# Altium schematic symbol library Discrete.SchLib: 108 symbols
Pins are listed as number, name and electrical type; pins without a type are passive.

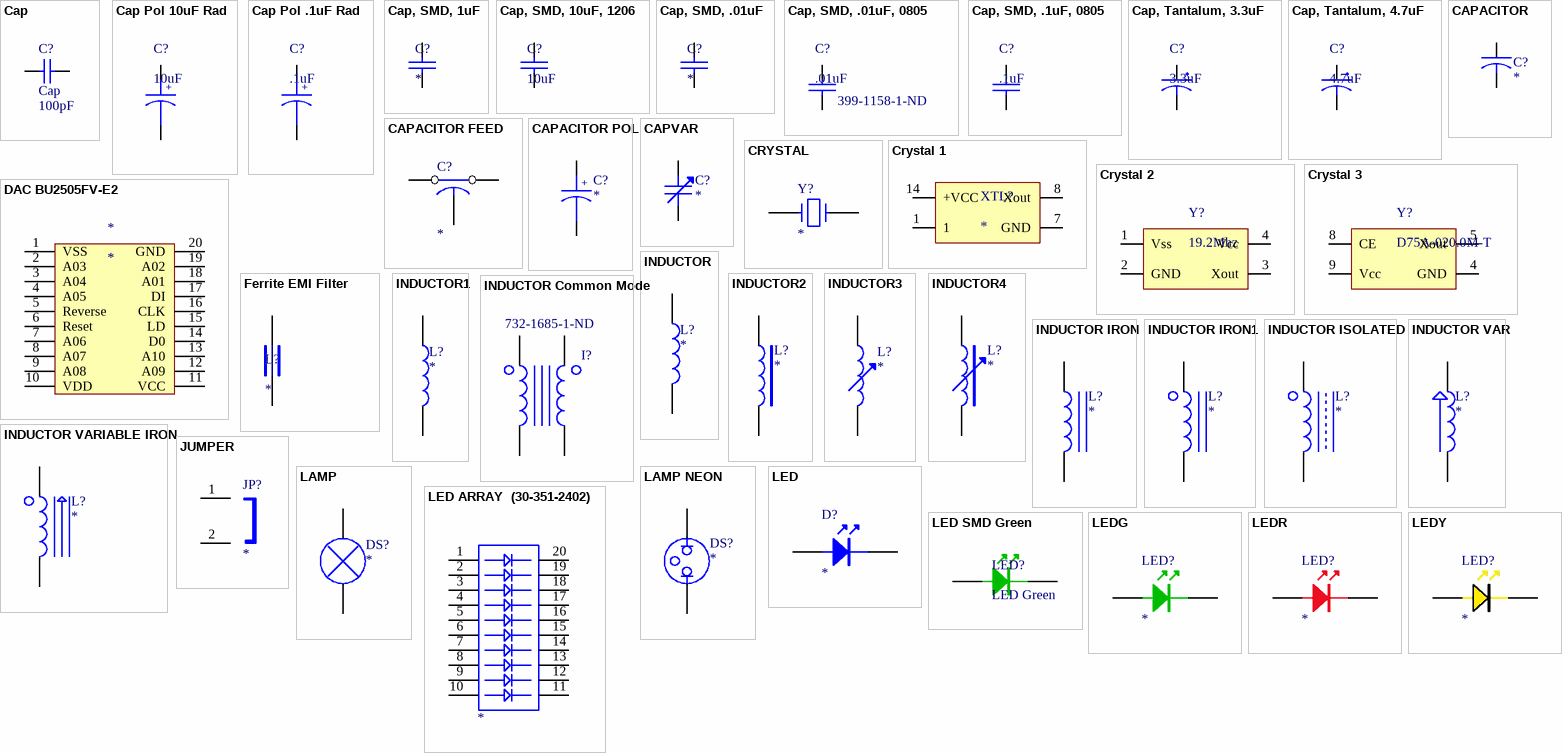
[diagram p0: symbols Cap to LEDY]

## Cap
designator C?  value 100pF
Capacitor; Supplier 1: *; Supplier Part Number 1: *
footprint RAD-0.3 (Capacitor; 2 Leads)
footprint VP32-3.2 (Capacitor, Ceramic, Thru-Hole, Dipped Radial; Body 5.1 x 3.2 mm (WxT) Pin Spacing 2.54 mm (typ))
footprint VP45-3.2 (Capacitor, Ceramic, Thru-Hole, Dipped Radial; Body 7.8 x 3.2 mm (WxT) Pin Spacing 5.08 mm (typ))
simulation model CAP (Capacitor)
signal-integrity model Cap
footprint 1206
footprint 1210
footprint 2416 (2416 SMD)
footprint 1913. (Footprint not found)
footprint 2820 (2820 SMD)
footprint Rad .6 (Radial)
footprint Rad .7 (Radial Cap)
footprint 0402
footprint 0805
footprint 0603
footprint 2312
pins: 1, 2

## Cap Pol 10uF Rad
designator C?, comment 10uF
Electrolytic 25V; Supplier 1: Digi-Key; Supplier Part Number 1: P11212-ND
footprint RAD .05
pins: 1, 2
text: +

## Cap Pol .1uF Rad
designator C?, comment .1uF
Electrolytic 50V; Supplier 1: Digi-Key; Supplier Part Number 1: P5559-ND
footprint RAD .075
pins: 1, 2
text: +

## Cap, SMD, 1uF
designator C?
Ceramic SMD Cap
footprint 1206
pins: 1, 2

## Cap, SMD, 10uF, 1206
designator C?, comment 10uF
Ceramic SMD Cap
footprint 1206
pins: 1, 2

## Cap, SMD, .01uF
designator C?
Ceramic SMD Cap
footprint 0805
pins: 1, 2

## Cap, SMD, .01uF, 0805
designator C?, comment .01uF  Supplier Part Number 1: 399-1158-1-ND
Ceramic SMD Cap; Supplier 1: Digi-Key
footprint 0805
pins: 1, 2

## Cap, SMD, .1uF, 0805
designator C?, comment .1uF
Ceramic SMD Cap; Supplier 1: Digi-Key; Supplier Part Number 1: 478-3553-1-ND
footprint 0805
pins: 1, 2

## Cap, Tantalum, 3.3uF
designator C?, comment 3.3uF
Tantalum, 3.3uF, 35V; Manufacturer: Kemet; ManufacturerPN: T491B335M035AT; Help: http://www.kemet.com/datasheets&T491B335M035AT; Supplier 1: Digikey; Supplier Part Number 1: 399-3720-1-ND
footprint 1411
pins: 1, 2

## Cap, Tantalum, 4.7uF
designator C?, comment 4.7uF
4.7uF, 50V; Manufacturer: Kemet; ManufacturerPN: T491D475K050AT; Help: http://www.kemet.com/datasheets&T491D475K050AT; Supplier 1: Digikey; Supplier Part Number 1: 399-3792-1-ND
footprint CAPSize_D
pins: 1, 2

## CAPACITOR
designator C?
Capacitor
pins: 1, 2

## CAPACITOR FEED
designator C?
Feed-Through Capacitor
pins: 1, 2, 3

## CAPACITOR POL
designator C?
Capacitor
footprint Rad Cap CE TUP (Power Cap ECE-T1JP223FA)
footprint RAD CAP .4 (Capacitor)
footprint Rad Cap .160 (Radial Cap .160 x .450)
footprint RAD .075
footprint RAD .05
footprint 1206
footprint 0805
footprint CAPSMD1 (Cap SMD General Footprint)
footprint CAPSMD2 (Cap SMD General)
footprint CAPSMD3 (Cap SMD General 3)
footprint CAPSIZE_c
footprint CAPSIZE_d
footprint 2312
pins: 1, 2
text: +

## CAPVAR
designator C?
Variable Capacitor
pins: 1, 2

## CRYSTAL
designator Y?
Crystal
footprint ABLS2
footprint HC49/US (Specialized for HC-49S Crystal)
footprint ECS-.327-6-13 (Footprint not found)
pins: 1, 2

## Crystal 1
designator XTL?
5V, DIP STRATUM 3 HCMOS OCXO
pins: 1, 7 GND, 8 Xout, 14 +VCC

## Crystal 2
designator Y?, comment 19.2Mhz
OSC TCXO 19.2000 MHZ 3.3V SMD
footprint CTX808
pins: 1 Vss, 2 GND, 3 Xout, 4 Vcc

## Crystal 3
designator Y?, comment D75A-020.0M-T
OSC TCXO 20.000 MHZ 3.3V SMT; Help: *
footprint D75A-020.0M-T
pins: 4 GND, 5 Xout, 8 CE, 9 Vcc

## DAC BU2505FV-E2
designator *
pins: 1 VSS, 2 A03, 3 A04, 4 A05, 5 Reverse, 6 Reset, 7 A06, 8 A07, 9 A08, 10 VDD, 11 VCC, 12 A09, 13 A10, 14 D0, 15 LD, 16 CLK, 17 DI, 18 A01, 19 A02, 20 GND
1 alternate drawing of the same symbol

## Ferrite EMI Filter
designator L?
EMI Ferrite chip Filter; Supplier 1: Digikey; Supplier Part Number 1: 490-1014-1-ND
footprint 0603
pins: 1, 2

## INDUCTOR
designator L?
footprint 0402
footprint 0603
footprint 1206
pins: 1, 2

## INDUCTOR1
designator L?
footprint SLF6028
pins: 1, 2

## INDUCTOR2
designator L?
pins: 1, 2

## INDUCTOR3
designator L?
pins: 1, 2

## INDUCTOR4
designator L?
pins: 1, 2

## INDUCTOR Common Mode
designator I?  Supplier Part Number 1: 732-1685-1-ND  (hidden comment: *)
Supplier 1: Digi-Key
footprint 744242101 (Common Mode Choke)
pins: 1, 2, 3, 4

## INDUCTOR IRON
designator L?
pins: 1, 2

## INDUCTOR IRON1
designator L?
pins: 1, 2

## INDUCTOR ISOLATED
designator L?
pins: 1, 2

## INDUCTOR VAR
designator L?
pins: 1, 2

## INDUCTOR VARIABLE IRON
designator L?
pins: 1, 2

## JUMPER
designator JP?
Jumper
footprint RAD0.2
pins: 1, 2

## LAMP
designator DS?
pins: 1, 2

## LAMP NEON
designator DS?
pins: 1, 2

## LED
designator D?
pins: A 1, K 2

## LED ARRAY  (30-351-2402)
designator ?
pins: 1 A1, 2 A2, 3 A3, 4 A4, 5 A5, 6 A6, 7 A7, 8 A8, 9 A9, 10 A10, 11 K10, 12 K9, 13 K8, 14 K7, 15 K6, 16 K5, 17 K4, 18 K3, 19 K2, 20 K1

## LED SMD Green
designator LED?, comment LED Green
LED
footprint 1206 Diode (Diode)
pins: A 1, K 2

## LEDG
designator LED?
Green LED
footprint T1
footprint T1 3/4
footprint LED 1206 (LED 1206 footprint only)
pins: 1, 2

## LEDR
designator LED?
Red LED
footprint T1
footprint T1 3/4
footprint LED 1206 (LED 1206 footprint only)
footprint Gullwing
pins: 1, 2

## LEDY
designator LED?
Yellow LED
footprint T1
footprint T1 3/4
footprint LED 1206 (LED 1206 footprint only)
pins: 1, 2

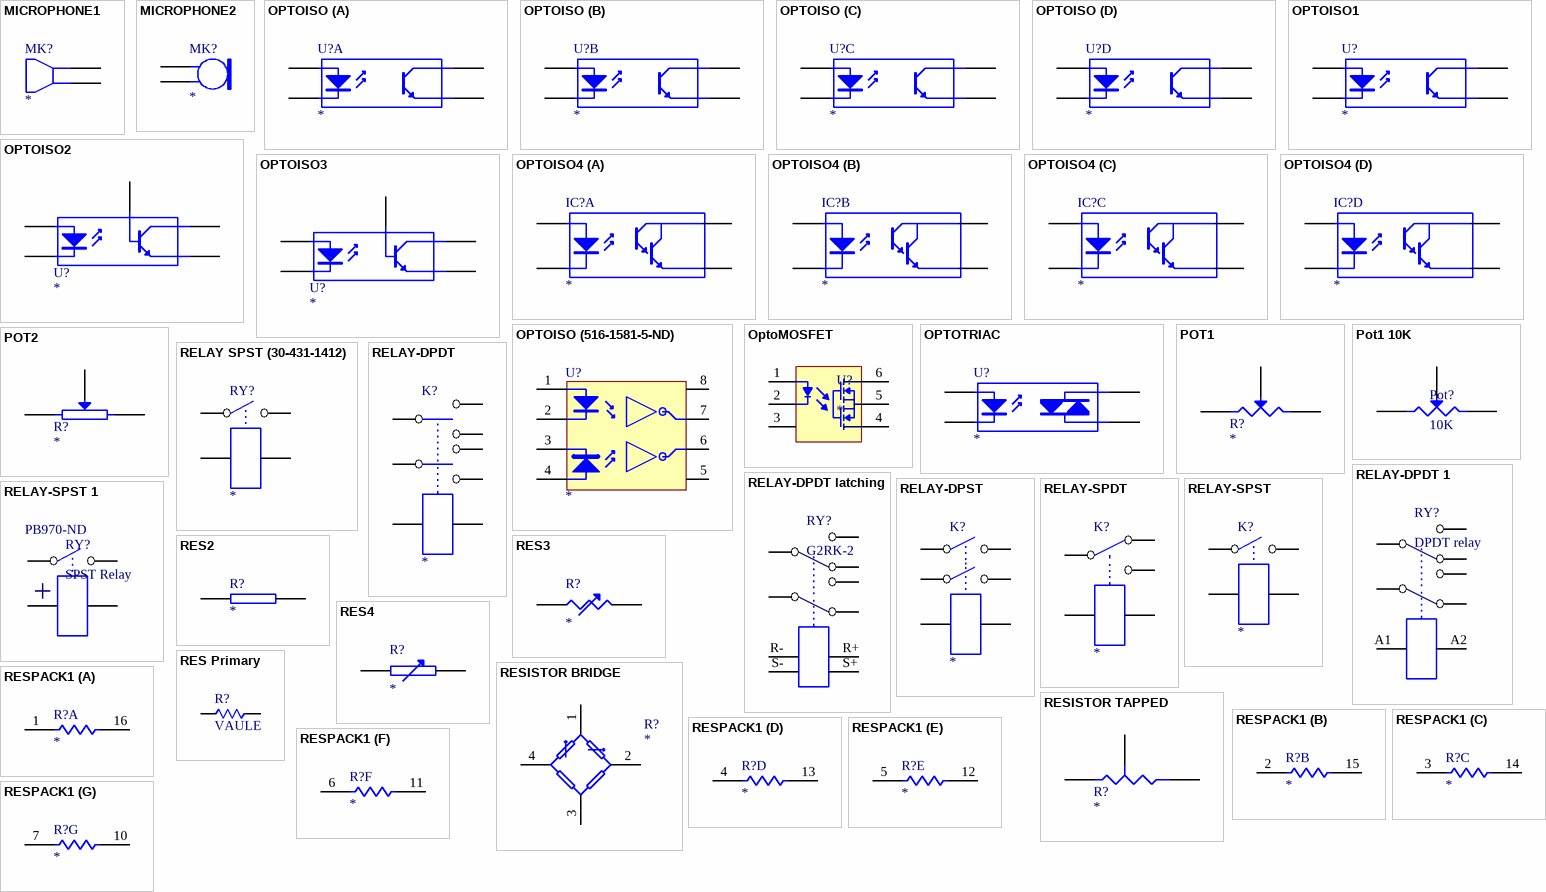
[diagram p1: symbols MICROPHONE1 to RESPACK1]

## MICROPHONE1
designator MK?
Microphone
pins: 1, 2

## MICROPHONE2
designator MK?
Microphone
pins: 1, 2

## OPTOISO
designator U?
Quad Opto isolator
footprint SO-16
part A pins: 1 A, 2 K, 3 C, 4 E
part B pins: 3 A, 4 K, 13 E, 14 C
part C pins: 5 A, 6 K, 11 E, 12 C
part D pins: 7 A, 8 K, 9 E, 10 C

## OPTOISO1
designator U?
Optoisolator
footprint SO-8
pins: 1 A, 2 K, 3 C, 4 E

## OPTOISO2
designator U?
Optoisolator
pins: 1 A, 2 K, 3 B, 4 C, 5 E

## OPTOISO3
designator U?
H11A1 Opto Isolator
footprint DIP6
pins: 1 A, 2 K, 4 E, 5 C, 6 B

## OPTOISO4
designator IC?
OPTOCOUPLER 2CHAN HS LOGIC 8-SMD
footprint SOJ-16
part A pins: 1 A, 2 K, 15 E, 16 C
part B pins: 3 A, 4 K, 13 E, 14 C
part C pins: 5 A, 6 K, 11 E, 12 C
part D pins: 7 A, 8 K, 9 E, 10 C

## OPTOISO (516-1581-5-ND)
designator U?
Optoiso (516-1581-5-ND)
footprint SO-8
pins: 1 A, 2 K, 3 K, 4 A, 5 GND, 6 VO2, 7 VO1, 8 VCC

## OptoMOSFET
designator U?
footprint DIP6
pins: 1, 2, 3, 4, 5, 6

## OPTOTRIAC
designator U?
pins: 1 A, 2 K, 3 A/K, 4 A/K

## POT1
designator R?
Potentiometer
pins: 1, 2, 3 W

## Pot1 10K
designator Pot?, comment 10K
10K Pot; Manufacturer: Vishay Sfernice; ManufacturerPN: T63YB103KT20; Help: http://www.vishay.com/doc?51024; Supplier 1: Digikey; Supplier Part Number 1: T63YB-10K-ND
footprint T63YB103KT20 (Footprint not found)
pins: 1, 2, 3 W

## POT2
designator R?
Potentiometer
pins: 1, 2, 3 W

## RELAY SPST (30-431-1412)
designator RY?
SPST
footprint 30-431-1412
pins: 1, 2, 3, 4

## RELAY-DPDT
designator K?
pins: 1, 2, 3, 4, 5, 6, 7, 8

## RELAY-DPDT 1
designator RY?, comment DPDT relay
Supplier 1: Digikey; Supplier Part Number 1: PB970-ND
footprint RT424524 (DPDT Standard relay)
pins: 11, 12, 14, 21, 22, 24, A1, A2

## RELAY-DPDT latching
designator RY?, comment G2RK-2
DPDT Latching relay; Supplier 1: Digikey; Supplier Part Number 1: Z2329-ND
footprint G2RK-2 (DPDT relay with latch)
pins: 3, 4, 5, 6, 7, 8, R+ 9, R- 2, S+ 10, S- 1

## RELAY-DPST
designator K?
pins: 1, 2, 3, 4, 5, 6

## RELAY-SPDT
designator K?
footprint 2911-05-301 (SPDT Reed switch)
pins: 1, 2, 3, 4, 5

## RELAY-SPST
designator K?
footprint LC241R (Crydom SSR)
pins: 1, 2, 3, 4

## RELAY-SPST 1
designator RY?, comment SPST Relay  Supplier Part Number 1: PB970-ND
Supplier 1: Digi-Key
footprint HE751A2410 (SPST relay)
pins: 2, 6, 8, 14

## RES2
designator R?
pins: 1, 2

## RES3
designator R?
pins: 1, 2

## RES4
designator R?
pins: 1, 2

## RES Primary
designator R?, comment VAULE
Resistor
footprint 0805
footprint 1206
footprint AXIAL-0.5
footprint Axiel 2 (Axiel 2")
footprint Axial .2 A (Axial Slant)
footprint 0603
footprint 0402
footprint 2010
pins: 1, 2

## RESISTOR BRIDGE
designator R?
Resistor Bridge
pins: 1, 2, 3, 4

## RESISTOR TAPPED
designator R?
pins: 1 A, 2 B, 3 TAP

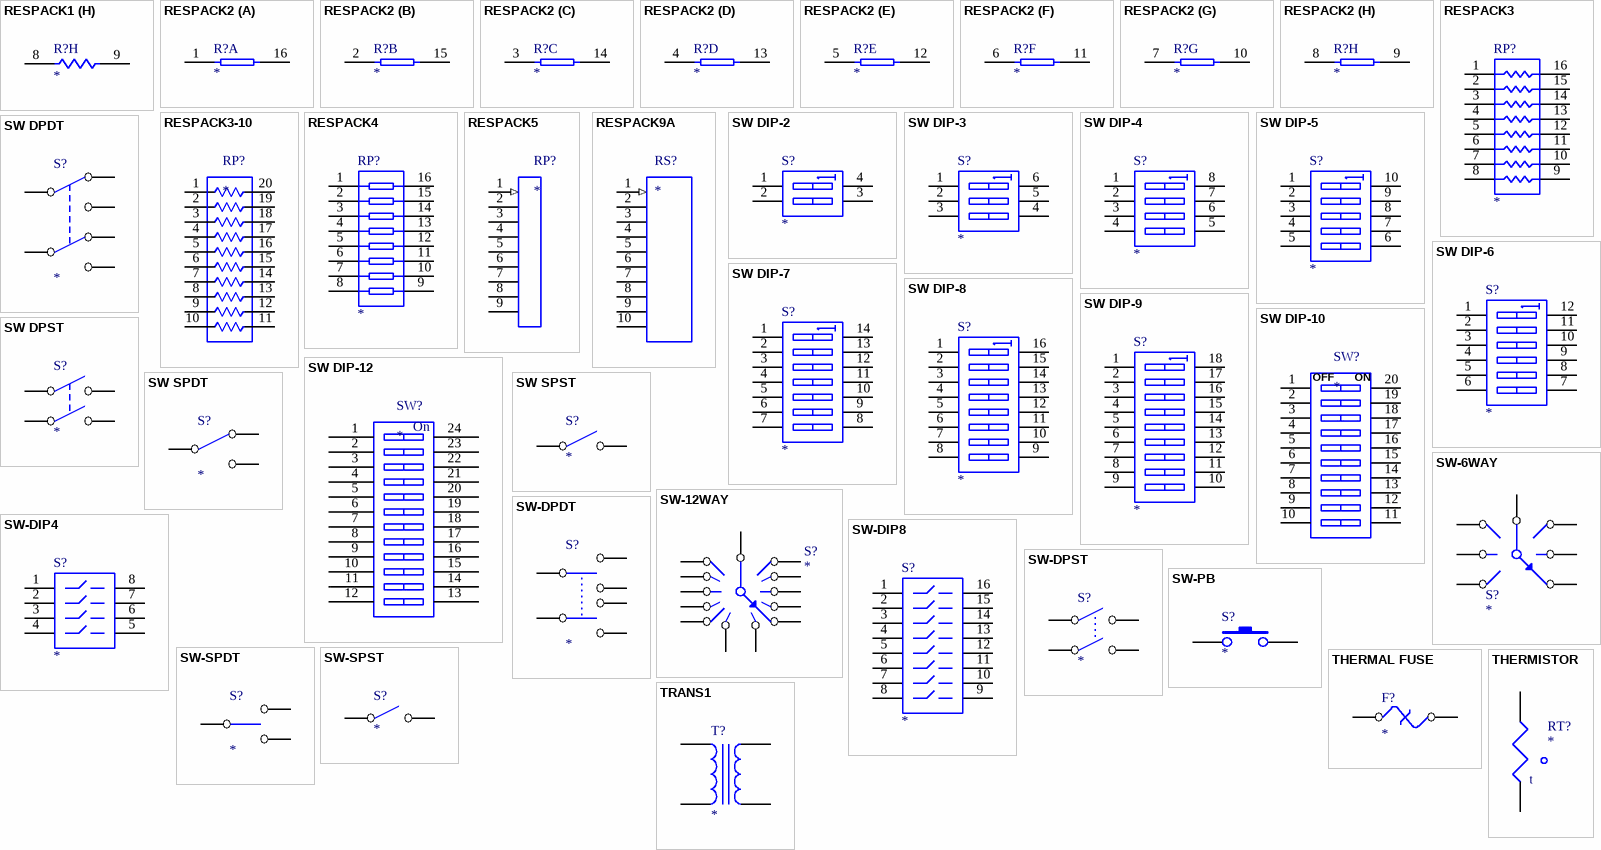
[diagram p2: symbols RESPACK1 to TRANS1]

## RESPACK1
designator R?
footprint DIP-16
footprint MNR18 (Resistor array)
part A pins: 1, 16
part B pins: 2, 15
part C pins: 3, 14
part D pins: 4, 13
part E pins: 5, 12
part F pins: 6, 11
part G pins: 7, 10
part H pins: 8, 9

## RESPACK2
designator R?
footprint DIP-16
part A pins: 1, 16
part B pins: 2, 15
part C pins: 3, 14
part D pins: 4, 13
part E pins: 5, 12
part F pins: 6, 11
part G pins: 7, 10
part H pins: 8, 9

## RESPACK3
designator RP?
footprint DIP-16
pins: 1, 2, 3, 4, 5, 6, 7, 8, 9, 10, 11, 12, 13, 14, 15, 16

## RESPACK3-10
designator RP?
footprint SOIC-20
pins: 1, 2, 3, 4, 5, 6, 7, 8, 9, 10, 11, 12, 13, 14, 15, 16, 17, 18, 19, 20

## RESPACK4
designator RP?
footprint DIP-16
pins: 1, 2, 3, 4, 5, 6, 7, 8, 9, 10, 11, 12, 13, 14, 15, 16

## RESPACK5
designator RP?
footprint SIP-9 (Footprint not found)
pins: 1 (in), 2, 3, 4, 5, 6, 7, 8, 9

## RESPACK9A
designator RS?
Supplier 1: *; Supplier Part Number 1: *
footprint 4610X-101-472LF (Resistor Pack)
pins: 1 (in), 2, 3, 4, 5, 6, 7, 8, 9, 10

## SW DIP-2
designator S?
DIP Switch
footprint 219-2LPST (Footprint not found)
pins: 1 A1, 2 A2, 3 B2, 4 B1

## SW DIP-3
designator S?
DIP Switch
pins: 1 A1, 2 A2, 3 A3, 4 B3, 5 B2, 6 B1

## SW DIP-4
designator S?
DIP Switch
pins: 1 A1, 2 A2, 3 A3, 4 A4, 5 B4, 6 B3, 7 B2, 8 B1

## SW DIP-5
designator S?
DIP Switch
pins: 1 A1, 2 A2, 3 A3, 4 A4, 5 A5, 6 B5, 7 B4, 8 B3, 9 B2, 10 B1

## SW DIP-6
designator S?
DIP Switch
pins: 1 A1, 2 A2, 3 A3, 4 A4, 5 A5, 6 A6, 7 B6, 8 B5, 9 B4, 10 B3, 11 B2, 12 B1

## SW DIP-7
designator S?
DIP Switch
pins: 1 A1, 2 A2, 3 A3, 4 A4, 5 A5, 6 A6, 7 A7, 8 B7, 9 B6, 10 B5, 11 B4, 12 B3, 13 B2, 14 B1

## SW DIP-8
designator S?
DIP Switch
footprint 219-8MST (8 position switch)
pins: 1 A1, 2 A2, 3 A3, 4 A4, 5 A5, 6 A6, 7 A7, 8 A8, 9 B8, 10 B7, 11 B6, 12 B5, 13 B4, 14 B3, 15 B2, 16 B1

## SW DIP-9
designator S?
DIP Switch
pins: 1 A1, 2 A2, 3 A3, 4 A4, 5 A5, 6 A6, 7 A7, 8 A8, 9 A9, 10 B9, 11 B8, 12 B7, 13 B6, 14 B5, 15 B4, 16 B3, 17 B2, 18 B1

## SW DIP-10
designator SW?
footprint 219-10MST
pins: 1 A1, 2 A2, 3 A3, 4 A4, 5 A5, 6 A6, 7 A7, 8 A8, 9 A9, 10 A10, 11 B10, 12 B9, 13 B8, 14 B7, 15 B6, 16 B5, 17 B4, 18 B3, 19 B2, 20 B1
text: OFF; ON

## SW DIP-12
designator SW?
Supplier 1: *; Supplier Part Number 1: *
footprint 219-12MST (12 Position Switch)
pins: 1 0, 2 1, 3 2, 4 3, 5 4, 6 5, 7 6, 8 7, 9 8, 10 9, 11 10, 12 11, 13 12, 14 13, 15 14, 16 15, 17 16, 18 17, 19 18, 20 19, 21 20, 22 21, 23 22, 24 23
text: On

## SW DPDT
designator S?
pins: 1 COMMON1, 2 NC1, 3 NO1, 4 NC2, 5 COMMON2, 6 NO2

## SW DPST
designator S?
pins: 1 COMMON1, 2 NO1, 3 COMMON2, 4 NO2

## SW SPDT
designator S?
footprint 30-612-200-C-1121
pins: 1 COMMON, 2 NC, 3 NO

## SW SPST
designator S?
footprint EVQ-22709K
pins: 1 COMMON, 2 NO

## SW-6WAY
designator S?
pins: 1, 2, 3, 4, 5, 6, 7

## SW-12WAY
designator S?
pins: 1, 2, 3, 4, 5, 6, 7, 8, 9, 10, 11, 12, 13

## SW-DIP4
designator S?
footprint DIP-8
pins: 1, 2, 3, 4, 5, 6, 7, 8

## SW-DIP8
designator S?
footprint DIP-16
pins: 1, 2, 3, 4, 5, 6, 7, 8, 9, 10, 11, 12, 13, 14, 15, 16

## SW-DPDT
designator S?
pins: 1, 2, 3, 4, 5, 6

## SW-DPST
designator S?
pins: 1, 2, 3, 4

## SW-PB
designator S?
pins: 1, 2

## SW-SPDT
designator S?
pins: 1, 2, 3

## SW-SPST
designator S?
pins: 1, 2

## THERMAL FUSE
designator F?
pins: 1, 2

## THERMISTOR
designator RT?
pins: 1, 2
text: t

## TRANS1
designator T?
pins: 1, 2, 3, 4

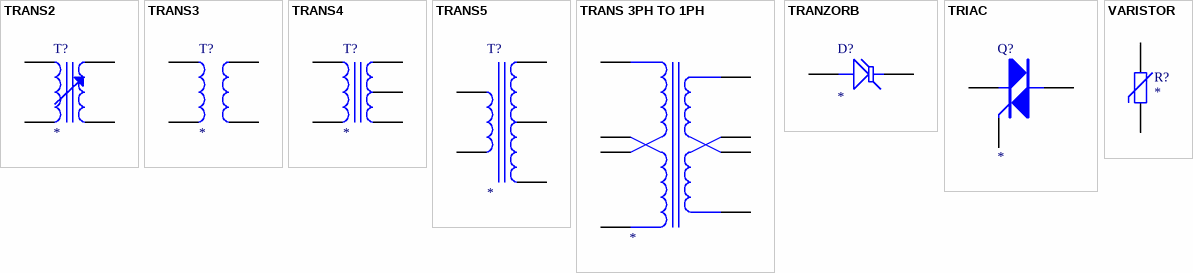
[diagram p3: symbols TRANS2 to VARISTOR]

## TRANS2
designator T?
pins: 1, 2, 3, 4

## TRANS3
designator T?
pins: 1, 2, 3, 4

## TRANS4
designator T?
pins: 1, 2, 3, 4, 5

## TRANS5
designator T?
pins: 1, 2, 3, 4, 5

## TRANS 3PH TO 1PH
designator ?
pins: 1 H4, 1 H3, 2 H2, 2 H1, 3 X1, 4 X3, 5 X2, 6 X4

## TRANZORB
designator D?
pins: 1 A, 2 K

## TRIAC
designator Q?
pins: 1 T, 2 T, 3 G

## VARISTOR
designator R?
footprint Axial .2 A (Axial Slant)
pins: 1, 2